# EAGLE library part 74HC4051_SPARKFUN (library doogie)
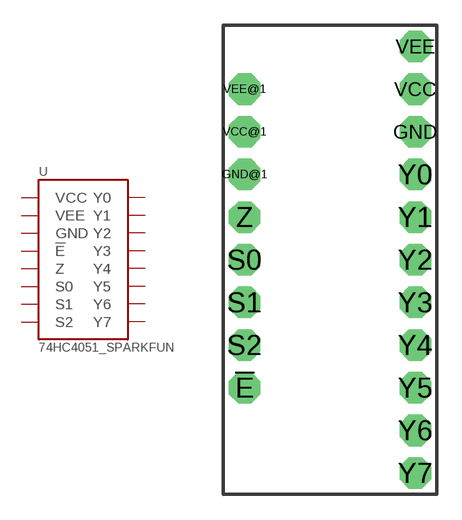
[diagram p1: symbol with the pads of 74HC4051_SPARKFUN; footprint 74HC4051_SPARKFUN]

Designator prefix U

## 74HC4051_SPARKFUN  [74HC4051_SPARKFUN]
!E  !E  in
GND  GND  pwr
GND@1  GND  pwr
S0  S0  in
S1  S1  in
S2  S2  in
VCC  VCC  pwr
VCC@1  VCC  pwr
VEE  VEE  pwr
VEE@1  VEE  pwr
Y0  Y0
Y1  Y1
Y2  Y2
Y3  Y3
Y4  Y4
Y5  Y5
Y6  Y6
Y7  Y7
Z  Z

## Footprint 74HC4051_SPARKFUN (pad centres in mm)
drill 1.016 pad 1.88 octagon: !E -5.08,-7.62; GND 5.08,7.62; GND@1 -5.08,5.08; S0 -5.08,0; S1 -5.08,-2.54; S2 -5.08,-5.08; VCC 5.08,10.16; VCC@1 -5.08,7.62; VEE 5.08,12.7; VEE@1 -5.08,10.16; Y0 5.08,5.08; Y1 5.08,2.54; Y2 5.08,0; Y3 5.08,-2.54; Y4 5.08,-5.08; Y5 5.08,-7.62; Y6 5.08,-10.16; Y7 5.08,-12.7; Z -5.08,2.54